# Altium schematic symbol library TYPE-C 6P(040新)1_TYPE-C 6P(040新).schdoc.SCHLIB: 1 symbol
Pins are listed as number, name and electrical type; pins without a type are passive.

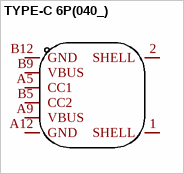
[diagram p0: symbol TYPE-C 6P(040_)]

## TYPE-C 6P(040_)
designator USB??
Add into BOM: yes; Connector Type: Type-C; Number of Ports: 1; Number of Contacts: 6P; Current Rating - Power (Max): 3A; Supplier: LCSC; Supplier Part: C2887422; JLCPCB Part Class: Extended Part; Supplier Footprint: SMD; Datasheet: https://atta.szlcsc.com/upload/public/pdf/source/20210820/A6D4675B44FEA528A0512D7C06DEA92E.pdf; Convert to PCB: yes; Standard: -
footprint USB-C-SMD_TYPE-C-6P
pins: 1 SHELL, 2 SHELL, A5 CC1, A9 VBUS, A12 GND, B5 CC2, B9 VBUS, B12 GND